# Altium schematic symbol library Balun,4.5MHz-3GHz,6SMD.Schlib: 1 symbol
Pins are listed as number, name and electrical type; pins without a type are passive.

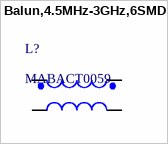
[diagram p0: symbol Balun,4.5MHz-3GHz,6SMD]

## Balun,4.5MHz-3GHz,6SMD
designator L?, comment MABACT0059
RF Balun 4.5MHz ~ 3GHz 1:1 6-SMD (5 Leads), Flat Lead
pins: 1, 3, 4, 5